# Altium footprint library PCB_Sensor.PcbLib: 3 footprints
Each footprint in its own frame and in the unit in brackets; x right, y up, seen from the top. Pads: shape width x height; smd on the part's side, far side on the other; paste and mask are expansions set on the pad; w line width, h text height; cw(c..) or ccw(c..) is an arc to the next point about the centre after c.
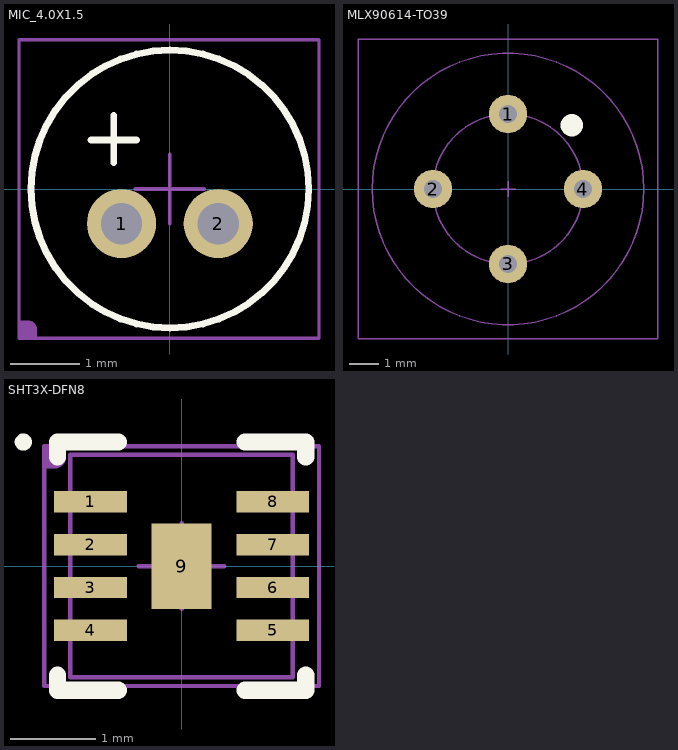
[diagram p0: the footprints below, top view; thin cyan lines are the x and y axes]

## MIC_4.0X1.5 [mm]
pads (2):
  round 1 hole 0.6: 1(-0.7,-0.5) 2(0.7,-0.5)
Top Overlay:
  circle w0.1: c0,0 r2.011
  lines w0.1: -1.143,0.711 -0.483,0.711 ; -0.813,0.381 -0.813,1.067
Top Assembly (Mech13):
  circle w0.051: c0,0 r2
  lines w0.051: -0.5,0 0.5,0 ; 0,-0.5 0,0.5
Top Component:
  region: -2.184,-2.159 -2.184,-1.905 -2.057,-1.905 -2.032,-1.905 -1.985,-1.924 -1.95,-1.96 -1.93,-2.007 -1.93,-2.032 -1.93,-2.159
  lines w0.05: -2.184,-2.159 -2.184,2.159 2.159,2.159 2.159,-2.159 -2.184,-2.159
  text ".Designator" at -0.762,-0.381 h1.5
3D body: height 1.7, standoff 1.5, extent -2,-2 2,2
3D body: height 1.5, standoff 0, extent -2,-2 2,2

## MLX90614-TO39 [mm]
pads (4):
  round 1.3 hole 0.6: 1(0,2.54) 2(-2.54,0) 3(0,-2.54) 4(2.54,0)
Top Overlay:
  circle w0.5: c2.159,2.159 r0.127
Top Assembly (Mech13):
  circle w0.051: c0,0 r4.6
  circle w0.051: c0,0 r2.54
  lines w0.051: -0.254,0 0.254,0 ; 0,-0.254 0,0.255
Top Component:
  lines w0.051: -5.08,-5.08 -5.08,5.08 5.08,5.08 5.08,-5.08 -5.08,-5.08
  text ".Designator" at -1.041,-0.61 h2.54
3D body "MLX90614.step": height 4.05, standoff -2, extent -6.54,-6.54 7.07,7.07

## SHT3X-DFN8 [mm] "SON, 8-Leads, Body 2.50x2.50mm, Pitch 0.50mm, Thermal Pad 1.60x0.88mm, IPC High Density"
height 1
pads (9):
  rect 0.85x0.25 smd: 1(-1.065,0.75) 2(-1.065,0.25) 3(-1.065,-0.25) 4(-1.065,-0.75) 5(1.065,-0.75) 6(1.065,-0.25) 7(1.065,0.25) 8(1.065,0.75)
  rect 0.7x1 smd paste-0.44: 9(0,0)
Top Overlay:
  circle w0.1: c-1.85,1.45 r0.05
  lines w0.2: -1.45,-1.275 -1.45,-1.45 -0.74,-1.45 ; -1.45,1.275 -1.45,1.45 -0.74,1.45 ; 0.74,-1.45 1.45,-1.45 1.45,-1.275 ; 0.74,1.45 1.45,1.45 1.45,1.275
Top Paste:
  rectangle: -0.465,-0.615 0.465,0.615
Top Assembly (Mech13):
  lines w0.051: -1.3,-1.3 1.3,-1.3 1.3,1.3 -1.3,1.3 -1.3,-1.3
Top Component:
  region: -1.605,1.4 -1.351,1.4 -1.351,1.273 -1.351,1.248 -1.37,1.201 -1.406,1.165 -1.453,1.146 -1.478,1.146 -1.605,1.146
  lines w0.05: -1.605,-1.4 1.605,-1.4 1.605,1.4 -1.605,1.4 -1.605,-1.4
  lines w0.051: -0.5,0 0.5,0 ; 0,-0.5 0,0.5
  text ".Designator" at -0.762,-0.381 h1.5
3D body "sht3x-1.STEP": height 0.9, standoff 0, extent -1.257,-1.225 1.243,1.275